# Altium schematic symbol library stm.SchLib: 3 symbols
Pins are listed as number, name and electrical type; pins without a type are passive.

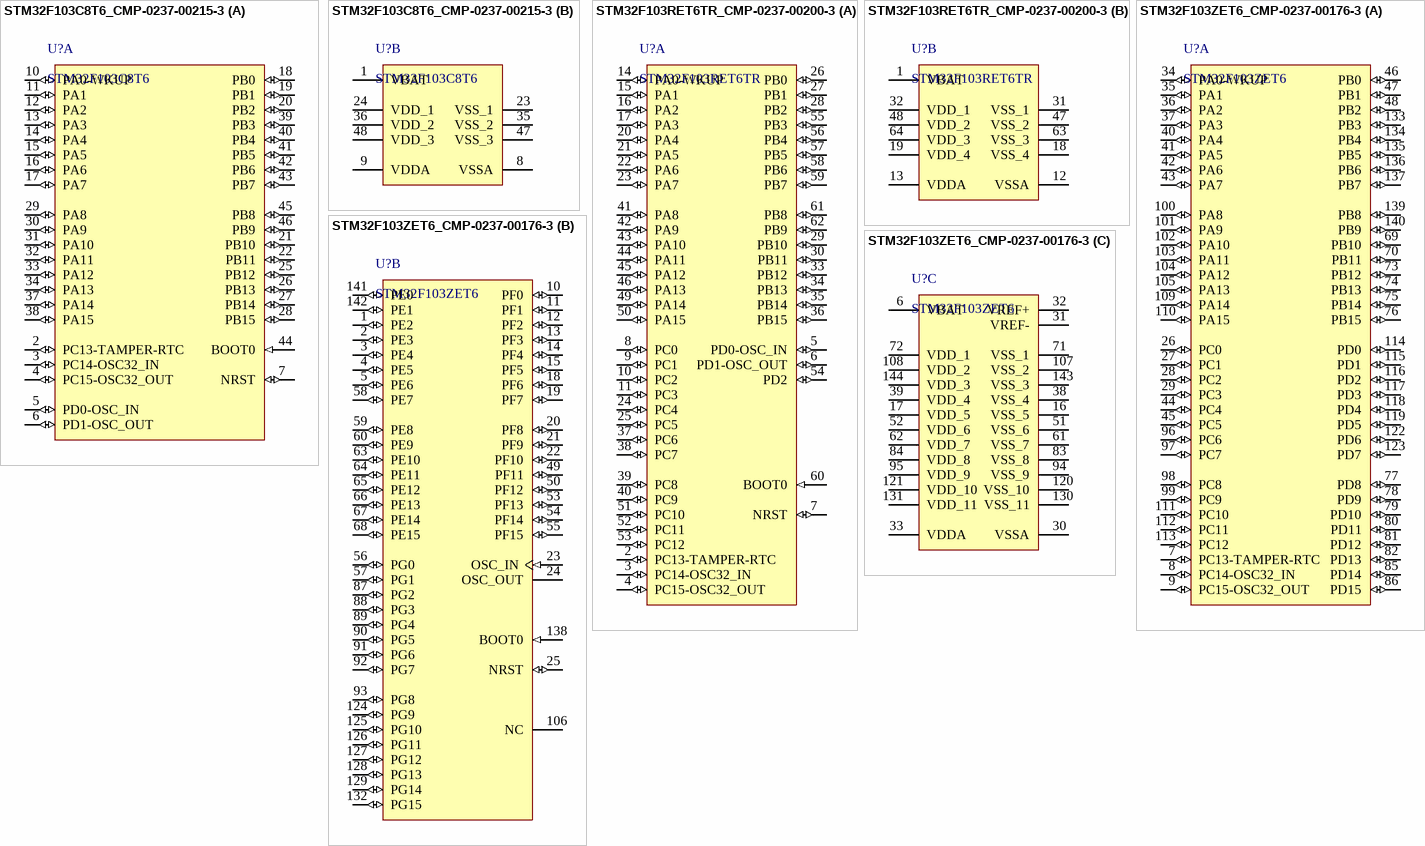
[diagram p0: symbols STM32F103C8T6_CMP-0237-00215-3 to STM32F103ZET6_CMP-0237-00176-3]

## STM32F103C8T6_CMP-0237-00215-3
designator U?, comment STM32F103C8T6
ARM Cortex-M3 32-bit MCU, 64 KB Flash, 20 KB Internal RAM, 37 I/Os, 48-pin LQFP, -40 to 85 degC, Tray; Supply Voltage(Vcc) min (V): 2; Internal RAM Size (kB): 20; FLASH Size (Prog) (kB): 64; A/D Converter: 2x12-bit (10 Channel); I/Os (High Current): 37; Operating Frequency(F) (Processor speed) (MHz): 72; Core: ARM Cortex-M3; ComponentLink3Description: Package Specification; Mounting Technology: Surface Mount; PartNumber: STM32F103C8T6; PackageReference: LQFP48; Packing: Tray; ComponentLink3URL: http://www.st.com/st-web-ui/static/active/en/resource/technical/document/datasheet/DM00058181.pdf; DatasheetVersion: Rev. 16; ComponentLink1URL: http://www.st.com/web/en/home.html; PackageVersion: Rev. 6, 06/2013; ComponentLink2URL: http://www.st.com/st-web-ui/static/active/en/resource/technical/document/datasheet/CD00161566.pdf; ComponentLink1Description: Manufacturer URL; ComponentLink2Description: Datasheet; PackageDescription: 48-Pin Low Profile Quad Flat Package, 7 x 7 mm Body, 0.5 mm Pitch
footprint STM-LQFP48_L (QFP, 48-Leads, Body 7x7mm, Pitch 0.5mm, IPC High Density)
footprint STM-LQFP48_M (QFP, 48-Leads, Body 7x7mm, Pitch 0.5mm, IPC Low Density)
footprint STM-LQFP48_N (QFP, 48-Leads, Body 7x7mm, Pitch 0.5mm, IPC Medium Density)
part A pins: 2 PC13-TAMPER-RTC (io) "PC13-TAMPER-RTC/PC13/TAMPER-RTC", 3 PC14-OSC32_IN (io) "PC14-OSC32_IN/PC14/OSC32_IN", 4 PC15-OSC32_OUT (io) "PC15-OSC32_OUT/PC15/OSC32_OUT", 5 PD0-OSC_IN (io) "PD0/OSC_IN", 6 PD1-OSC_OUT (io) "PD1/OSC_OUT", 7 NRST (io), 10 PA0-WKUP (io) "PA0-WKUP/PA0/WKUP/USART2_CTS/ADC12_IN0/TIM2_CH1_ETR", 11 PA1 (io) "PA1/USART2_RTS/ADC12_IN1/TIM2_CH2", 12 PA2 (io) "PA2/USART2_TX/ADC12_IN2/TIM2_CH3", 13 PA3 (io) "PA3/USART2_RX/ADC12_IN3/TIM2_CH4", 14 PA4 (io) "PA4/SPI1_NSS/USART2_CK/ADC12_IN4", 15 PA5 (io) "PA5/SPI1_SCK/ADC12_IN5", 16 PA6 (io) "PA6/SPI1_MISO/ADC12_IN6/TIM3_CH1/TIM1_BKIN", 17 PA7 (io) "PA7/SPI1_MOSI/ADC12_IN7/TIM3_CH2/TIM1_CH1N", 18 PB0 (io) "PB0/ADC12_IN8/TIM3_CH3/TIM1_CH2N", 19 PB1 (io) "PB1/ADC12_IN9/TIM3_CH4/TIM1_CH3N", 20 PB2 (io) "PB2/BOOT1", 21 PB10 (io) "PB10/I2C2_SCL/USART3_TX/TIM2_CH3", 22 PB11 (io) "PB11/I2C2_SDA/USART3_RX/TIM2_CH4", 25 PB12 (io) "PB12/SPI2_NSS/I2C2_SMBAl/USART3_CK/TIM1_BKIN", 26 PB13 (io) "PB13/SPI2_SCK/USART3_CTS/TIM1_CH1N", 27 PB14 (io) "PB14/SPI2_MISO/USART3_RTS/TIM1_CH2N", 28 PB15 (io) "PB15/SPI2_MOSI/TIM1_CH3N", 29 PA8 (io) "PA8/USART1_CK/TIM1_CH1/MCO", 30 PA9 (io) "PA9/USART1_TX/TIM1_CH2", 31 PA10 (io) "PA10/USART1_RX/TIM1_CH3", 32 PA11 (io) "PA11/USART1_CTS/CANRX/USBDM/TIM1_CH4", 33 PA12 (io) "PA12/USART1_RTS/CANTX/USBDP/TIM1_ETR", 34 PA13 (io) "PA13/JTMS/SWDIO", 37 PA14 (io) "PA14/JTCK/SWCLK", 38 PA15 (io) "PA15/JTDI/TIM2_CH1_ETR/SPI1_NSS", 39 PB3 (io) "PB3/JTDO/TIM2_CH2/TRACESWO/SPI1_SCK", 40 PB4 (io) "PB4/NJTRST/TIM3_CH1/SPI1_MISO", 41 PB5 (io) "PB5/I2C1_SMBAI/TIM3_CH2/SPI1_MOSI", 42 PB6 (io) "PB6/I2C1_SCL/TIM4_CH1/USART1_TX", 43 PB7 (io) "PB7/I2C1_SDA/TIM4_CH2/USART1_RX", 44 BOOT0 (in), 45 PB8 (io) "PB8/TIM4_CH3/I2C1_SCL/CANRX", 46 PB9 (io) "PB9/TIM4_CH4/I2C1_SDA/CANTX"
part B pins: 1 VBAT (power), 8 VSSA (power), 9 VDDA (power), 23 VSS_1 (power), 24 VDD_1 (power), 35 VSS_2 (power), 36 VDD_2 (power), 47 VSS_3 (power), 48 VDD_3 (power)

## STM32F103RET6TR_CMP-0237-00200-3
designator U?, comment STM32F103RET6TR
ARM Cortex-M3 32-bit MCU, 512 KB Flash, 64 KB Internal RAM, 51 I/Os, 64-pin LQFP, -40 to 85 degC, Tape and Reel; A/D Converter: 3x12-bit (16 Channel); I/Os (High Current): 51; Internal RAM Size (kB): 64; Operating Frequency(F) (Processor speed) (MHz): 72; D/A Converter: 2x12-bit (2 Channel); FLASH Size (Prog) (kB): 512; Supply Voltage(Vcc) min (V): 2; ComponentLink3URL: http://www.st.com/st-web-ui/static/active/en/resource/technical/document/datasheet/DM00037051.pdf; PackageReference: LQFP64; Core: ARM Cortex-M3; DatasheetVersion: Rev. 8; ComponentLink1Description: Manufacturer URL; Mounting Technology: Surface Mount; ComponentLink1URL: http://www.st.com/web/en/home.html; PackageDescription: 64-Pin Low Profile Quad Flat Package, 10 x 10 mm Body, 0.5 mm Pitch; ComponentLink2Description: Datasheet; PartNumber: STM32F103RET6TR; ComponentLink3Description: Package Specification; PackageVersion: Rev. 4, 06/2013; ComponentLink2URL: http://www.st.com/st-web-ui/static/active/en/resource/technical/document/datasheet/CD00191185.pdf; Packing: Tape and Reel
footprint STM-LQFP64_L (Thin QFP, 64-Leads, Body 10x10mm, Pitch 0.5mm, IPC High Density)
footprint STM-LQFP64_N (Thin QFP, 64-Leads, Body 10x10mm, Pitch 0.5mm, IPC Medium Density)
footprint STM-LQFP64_V (Thin QFP, 64-Leads, Body 10x10mm, Pitch 0.5mm, ST Recommended)
footprint STM-LQFP64_M (Thin QFP, 64-Leads, Body 10x10mm, Pitch 0.5mm, IPC Low Density)
part A pins: 2 PC13-TAMPER-RTC (io) "PC13-TAMPER-RTC/PC13/TAMPER-RTC", 3 PC14-OSC32_IN (io) "PC14-OSC32_IN/PC14/OSC32_IN", 4 PC15-OSC32_OUT (io) "PC15-OSC32_OUT/PC15/OSC32_OUT", 5 PD0-OSC_IN (io) "PD0/OSC_IN/CAN_RX", 6 PD1-OSC_OUT (io) "PD1/OSC_OUT/CAN_TX", 7 NRST (io), 8 PC0 (io) "PC0/ADC123_IN10", 9 PC1 (io) "PC1/ADC123_IN11", 10 PC2 (io) "PC2/ADC123_IN12", 11 PC3 (io) "PC3/ADC123_IN13", 14 PA0-WKUP (io) "PA0-WKUP/PA0/WKUP/USART2_CTS/ADC123_IN0/TIM2_CH1_ETR/TIM5_CH1/TIM8_ETR", 15 PA1 (io) "PA1/USART2_RTS/ADC123_IN1/TIM5_CH2/TIM2_CH2", 16 PA2 (io) "PA2/USART2_TX/TIM5_CH3/ADC123_IN2/TIM2_CH3", 17 PA3 (io) "PA3/USART2_RX/TIM5_CH4/ADC123_IN3/TIM2_CH4", 20 PA4 (io) "PA4/SPI1_NSS/USART2_CK/DAC_OUT1/ADC12_IN4", 21 PA5 (io) "PA5/SPI1_SCK/DAC_OUT2/ADC12_IN5", 22 PA6 (io) "PA6/SPI1_MISO/TIM8_BKIN/ADC12_IN6/TIM3_CH1/TIM1_BKIN", 23 PA7 (io) "PA7/SPI1_MOSI/TIM8_CH1N/ADC12_IN7/TIM3_CH2/TIM1_CH1N", 24 PC4 (io) "PC4/ADC12_IN14", 25 PC5 (io) "PC5/ADC12_IN15", 26 PB0 (io) "PB0/ADC12_IN8/TIM3_CH3/TIM8_CH2N/TIM1_CH2N", 27 PB1 (io) "PB1/ADC12_IN9/TIM3_CH4/TIM8_CH3N/TIM1_CH3N", 28 PB2 (io) "PB2/BOOT1", 29 PB10 (io) "PB10/I2C2_SCL/USART3_TX/TIM2_CH3", 30 PB11 (io) "PB11/I2C2_SDA/USART3_RX/TIM2_CH4", 33 PB12 (io) "PB12/SPI2_NSS/I2S2_WS/I2C2_SMBA/USART3_CK/TIM1_BKIN", 34 PB13 (io) "PB13/SPI2_SCK/I2S2_CK/USART3_CTS/TIM1_CH1N", 35 PB14 (io) "PB14/SPI2_MISO/TIM1_CH2N/USART3_RTS", 36 PB15 (io) "PB15/SPI2_MOSI/I2S2_SD/TIM1_CH3N", 37 PC6 (io) "PC6/I2S2_MCK/TIM8_CH1/SDIO_D6/TIM3_CH1", 38 PC7 (io) "PC7/I2S3_MCK/TIM8_CH2/SDIO_D7/TIM3_CH2", 39 PC8 (io) "PC8/TIM8_CH3/SDIO_D0/TIM3_CH3", 40 PC9 (io) "PC9/TIM8_CH4/SDIO_D1/TIM3_CH4", 41 PA8 (io) "PA8/USART1_CK/TIM1_CH1/MCO", 42 PA9 (io) "PA9/USART1_TX/TIM1_CH2", 43 PA10 (io) "PA10/USART1_RX/TIM1_CH3", 44 PA11 (io) "PA11/USART1_CTS/USBDM/CAN_RX/TIM1_CH4", 45 PA12 (io) "PA12/USART1_RTS/USBDP/CAN_TX/TIM1_ETR", 46 PA13 (io) "PA13/JTMS-SWDIO", 49 PA14 (io) "PA14/JTCK-SWCLK", 50 PA15 (io) "PA15/JTDI/SPI3_NSS/I2S3_WS/TIM2_CH1_ETR/SPI1_NSS", 51 PC10 (io) "PC10/UART4_TX/SDIO_D2/USART3_TX", 52 PC11 (io) "PC11/UART4_RX/SDIO_D3/USART3_RX", 53 PC12 (io) "PC12/UART5_TX/SDIO_CK/USART3_CK", 54 PD2 (io) "PD2/TIM3_ETR/UART5_RX/SDIO_CMD", 55 PB3 (io) "PB3/JTDO/SPI3_SCK/I2S3_CK/TRACESWO/TIM2_CH2/SPI1_SCK", 56 PB4 (io) "PB4/NJTRST/SPI3_MISO/TIM3_CH1/SPI1_MISO", 57 PB5 (io) "PB5/I2C1_SMBA/SPI3_MOSI/I2S3_SD/TIM3_CH2/SPI1_MOSI", 58 PB6 (io) "PB6/I2C1_SCL/TIM4_CH1/USART1_TX", 59 PB7 (io) "PB7/I2C1_SDA/TIM4_CH2/USART1_RX", 60 BOOT0 (in), 61 PB8 (io) "PB8/TIM4_CH3/SDIO_D4/I2C1_SCL/CAN_RX", 62 PB9 (io) "PB9/TIM4_CH4/SDIO_D5/I2C1_SDA/CAN_TX"
part B pins: 1 VBAT (power), 12 VSSA (power), 13 VDDA (power), 18 VSS_4 (power), 19 VDD_4 (power), 31 VSS_1 (power), 32 VDD_1 (power), 47 VSS_2 (power), 48 VDD_2 (power), 63 VSS_3 (power), 64 VDD_3 (power)

## STM32F103ZET6_CMP-0237-00176-3
designator U?, comment STM32F103ZET6
ARM Cortex-M3 32-bit MCU, 512 KB Flash, 64 KB Internal RAM, 112 I/Os, 144-pin LQFP, -40 to 85 degC, Tray; D/A Converter: 2x12-bit (2 Channel); FLASH Size (Prog) (kB): 512; Internal RAM Size (kB): 64; I/Os (High Current): 112; Supply Voltage(Vcc) min (V): 2; Operating Frequency(F) (Processor speed) (MHz): 72; A/D Converter: 3x12-bit (21 Channel); ComponentLink2Description: Datasheet; PackageReference: LQFP144; ComponentLink3URL: http://www.st.com/st-web-ui/static/active/en/resource/technical/document/datasheet/DM00037051.pdf; Mounting Technology: Surface Mount; ComponentLink1URL: http://www.st.com/web/en/home.html; ComponentLink2URL: http://www.st.com/st-web-ui/static/active/en/resource/technical/document/datasheet/CD00191185.pdf; PackageVersion: Rev. 4, 06/2013; DatasheetVersion: Rev. 8; PartNumber: STM32F103ZET6; ComponentLink1Description: Manufacturer URL; PackageDescription: 144-Pin Low Profile Quad Flat Package, 20 x 20 mm Body, 0.5 mm Pitch; Core: ARM Cortex-M3; ComponentLink3Description: Package Specification; Packing: Tray
footprint STM-LQFP144_L (Thin QFP, 144-Leads, Body 20x20mm, Pitch 0.5mm, IPC High Density)
footprint STM-LQFP144_M (Thin QFP, 144-Leads, Body 20x20mm, Pitch 0.5mm, IPC Low Density)
footprint STM-LQFP144_N (Thin QFP, 144-Leads, Body 20x20mm, Pitch 0.5mm, IPC Medium Density)
footprint STM-LQFP144_V (Thin QFP, 144-Leads, Body 20x20mm, Pitch 0.5mm, ST Recommended)
part A pins: 7 PC13-TAMPER-RTC (io) "PC13-TAMPER-RTC/PC13/TAMPER-RTC", 8 PC14-OSC32_IN (io) "PC14-OSC32_IN/PC14/OSC32_IN", 9 PC15-OSC32_OUT (io) "PC15-OSC32_OUT/PC15/OSC32_OUT", 26 PC0 (io) "PC0/ADC123_IN10", 27 PC1 (io) "PC1/ADC123_IN11", 28 PC2 (io) "PC2/ADC123_IN12", 29 PC3 (io) "PC3/ADC123_IN13", 34 PA0-WKUP (io) "PA0-WKUP/PA0/WKUP/USART2_CTS/ADC123_IN0/TIM2_CH1_ETR/TIM5_CH1/TIM8_ETR", 35 PA1 (io) "PA1/USART2_RTS/ADC123_IN1/TIM5_CH2/TIM2_CH2", 36 PA2 (io) "PA2/USART2_TX/TIM5_CH3/ADC123_IN2/TIM2_CH3", 37 PA3 (io) "PA3/USART2_RX/TIM5_CH4/ADC123_IN3/TIM2_CH4", 40 PA4 (io) "PA4/SPI1_NSS/USART2_CK/DAC_OUT1/ADC12_IN4", 41 PA5 (io) "PA5/SPI1_SCK/DAC_OUT2/ADC12_IN5", 42 PA6 (io) "PA6/SPI1_MISO/TIM8_BKIN/ADC12_IN6/TIM3_CH1/TIM1_BKIN", 43 PA7 (io) "PA7/SPI1_MOSI/TIM8_CH1N/ADC12_IN7/TIM3_CH2/TIM1_CH1N", 44 PC4 (io) "PC4/ADC12_IN14", 45 PC5 (io) "PC5/ADC12_IN15", 46 PB0 (io) "PB0/ADC12_IN8/TIM3_CH3/TIM8_CH2N/TIM1_CH2N", 47 PB1 (io) "PB1/ADC12_IN9/TIM3_CH4/TIM8_CH3N/TIM1_CH3N", 48 PB2 (io) "PB2/BOOT1", 69 PB10 (io) "PB10/I2C2_SCL/USART3_TX/TIM2_CH3", 70 PB11 (io) "PB11/I2C2_SDA/USART3_RX/TIM2_CH4", 73 PB12 (io) "PB12/SPI2_NSS/I2S2_WS/I2C2_SMBA/USART3_CK/TIM1_BKIN", 74 PB13 (io) "PB13/SPI2_SCK/I2S2_CK/USART3_CTS/TIM1_CH1N", 75 PB14 (io) "PB14/SPI2_MISO/TIM1_CH2N/USART3_RTS", 76 PB15 (io) "PB15/SPI2_MOSI/I2S2_SD/TIM1_CH3N", 77 PD8 (io) "PD8/FSMC_D13/USART3_TX", 78 PD9 (io) "PD9/FSMC_D14/USART3_RX", 79 PD10 (io) "PD10/FSMC_D15/USART3_CK", 80 PD11 (io) "PD11/FSMC_A16/USART3_CTS", 81 PD12 (io) "PD12/FSMC_A17/TIM4_CH1/USART3_RTS", 82 PD13 (io) "PD13/FSMC_A18/TIM4_CH2", 85 PD14 (io) "PD14/FSMC_D0/TIM4_CH3", 86 PD15 (io) "PD15/FSMC_D1/TIM4_CH4", 96 PC6 (io) "PC6/I2S2_MCK/TIM8_CH1/SDIO_D6/TIM3_CH1", 97 PC7 (io) "PC7/I2S3_MCK/TIM8_CH2/SDIO_D7/TIM3_CH2", 98 PC8 (io) "PC8/TIM8_CH3/SDIO_D0/TIM3_CH3", 99 PC9 (io) "PC9/TIM8_CH4/SDIO_D1/TIM3_CH4", 100 PA8 (io) "PA8/USART1_CK/TIM1_CH1/MCO", 101 PA9 (io) "PA9/USART1_TX/TIM1_CH2", 102 PA10 (io) "PA10/USART1_RX/TIM1_CH3", 103 PA11 (io) "PA11/USART1_CTS/USBDM/CAN_RX/TIM1_CH4", 104 PA12 (io) "PA12/USART1_RTS/USBDP/CAN_TX/TIM1_ETR", 105 PA13 (io) "PA13/JTMS-SWDIO", 109 PA14 (io) "PA14/JTCK-SWCLK", 110 PA15 (io) "PA15/JTDI/SPI3_NSS/I2S3_WS/TIM2_CH1_ETR/SPI1_NSS", 111 PC10 (io) "PC10/UART4_TX/SDIO_D2/USART3_TX", 112 PC11 (io) "PC11/UART4_RX/SDIO_D3/USART3_RX", 113 PC12 (io) "PC12/UART5_TX/SDIO_CK/USART3_CK", 114 PD0 (io) "PD0/OSC_IN/FSMC_D2/CAN_RX", 115 PD1 (io) "PD1/OSC_OUT/FSMC_D3/CAN_TX", 116 PD2 (io) "PD2/TIM3_ETR/UART5_RX/SDIO_CMD", 117 PD3 (io) "PD3/FSMC_CLK/USART2_CTS", 118 PD4 (io) "PD4/FSMC_NOE/USART2_RTS", 119 PD5 (io) "PD5/FSMC_NWE/USART2_TX", 122 PD6 (io) "PD6/FSMC_NWAIT/USART2_RX", 123 PD7 (io) "PD7/FSMC_NE1/FSMC_NCE2/USART2_CK", 133 PB3 (io) "PB3/JTDO/SPI3_SCK/I2S3_CK/TRACESWO/TIM2_CH2/SPI1_SCK", 134 PB4 (io) "PB4/NJTRST/SPI3_MISO/TIM3_CH1/SPI1_MISO", 135 PB5 (io) "PB5/I2C1_SMBA/SPI3_MOSI/I2S3_SD/TIM3_CH2/SPI1_MOSI", 136 PB6 (io) "PB6/I2C1_SCL/TIM4_CH1/USART1_TX", 137 PB7 (io) "PB7/I2C1_SDA/FSMC_NADV/TIM4_CH2/USART1_RX", 139 PB8 (io) "PB8/TIM4_CH3/SDIO_D4/I2C1_SCL/CAN_RX", 140 PB9 (io) "PB9/TIM4_CH4/SDIO_D5/I2C1_SDA/CAN_TX"
part B pins: 1 PE2 (io) "PE2/TRACECK/FSMC_A23", 2 PE3 (io) "PE3/TRACED0/FSMC_A19", 3 PE4 (io) "PE4/TRACED1/FSMC_A20", 4 PE5 (io) "PE5/TRACED2/FSMC_A21", 5 PE6 (io) "PE6/TRACED3/FSMC_A22", 10 PF0 (io) "PF0/FSMC_A0", 11 PF1 (io) "PF1/FSMC_A1", 12 PF2 (io) "PF2/FSMC_A2", 13 PF3 (io) "PF3/FSMC_A3", 14 PF4 (io) "PF4/FSMC_A4", 15 PF5 (io) "PF5/FSMC_A5", 18 PF6 (io) "PF6/ADC3_IN4/FSMC_NIORD", 19 PF7 (io) "PF7/ADC3_IN5/FSMC_NREG", 20 PF8 (io) "PF8/ADC3_IN6/FSMC_NIOWR", 21 PF9 (io) "PF9/ADC3_IN7/FSMC_CD", 22 PF10 (io) "PF10/ADC3_IN8/FSMC_INTR", 23 OSC_IN (in), 24 OSC_OUT, 25 NRST (io), 49 PF11 (io) "PF11/FSMC_NIOS16", 50 PF12 (io) "PF12/FSMC_A6", 53 PF13 (io) "PF13/FSMC_A7", 54 PF14 (io) "PF14/FSMC_A8", 55 PF15 (io) "PF15/FSMC_A9", 56 PG0 (io) "PG0/FSMC_A10", 57 PG1 (io) "PG1/FSMC_A11", 58 PE7 (io) "PE7/FSMC_D4/TIM1_ETR", 59 PE8 (io) "PE8/FSMC_D5/TIM1_CH1N", 60 PE9 (io) "PE9/FSMC_D6/TIM1_CH1", 63 PE10 (io) "PE10/FSMC_D7/TIM1_CH2N", 64 PE11 (io) "PE11/FSMC_D8/TIM1_CH2", 65 PE12 (io) "PE12/FSMC_D9/TIM1_CH3N", 66 PE13 (io) "PE13/FSMC_D10/TIM1_CH3", 67 PE14 (io) "PE14/FSMC_D11/TIM1_CH4", 68 PE15 (io) "PE15/FSMC_D12/TIM1_BKIN", 87 PG2 (io) "PG2/FSMC_A12", 88 PG3 (io) "PG3/FSMC_A13", 89 PG4 (io) "PG4/FSMC_A14", 90 PG5 (io) "PG5/FSMC_A15", 91 PG6 (io) "PG6/FSMC_INT2", 92 PG7 (io) "PG7/FSMC_INT3", 93 PG8 (io), 106 NC, 124 PG9 (io) "PG9/FSMC_NE2/FSMC_NCE3", 125 PG10 (io) "PG10/FSMC_NCE4_1/FSMC_NE3", 126 PG11 (io) "PG11/FSMC_NCE4_2", 127 PG12 (io) "PG12/FSMC_NE4", 128 PG13 (io) "PG13/FSMC_A24", 129 PG14 (io) "PG14/FSMC_A25", 132 PG15 (io), 138 BOOT0 (in), 141 PE0 (io) "PE0/TIM4_ETR/FSMC_NBL0", 142 PE1 (io) "PE1/FSMC_NBL1"
part C pins: 6 VBAT (power), 16 VSS_5 (power), 17 VDD_5 (power), 30 VSSA (power), 31 VREF- (power), 32 VREF+ (power), 33 VDDA (power), 38 VSS_4 (power), 39 VDD_4 (power), 51 VSS_6 (power), 52 VDD_6 (power), 61 VSS_7 (power), 62 VDD_7 (power), 71 VSS_1 (power), 72 VDD_1 (power), 83 VSS_8 (power), 84 VDD_8 (power), 94 VSS_9 (power), 95 VDD_9 (power), 107 VSS_2 (power), 108 VDD_2 (power), 120 VSS_10 (power), 121 VDD_10 (power), 130 VSS_11 (power), 131 VDD_11 (power), 143 VSS_3 (power), 144 VDD_3 (power)